# Altium schematic symbol library LIB_Manual.SchLib: 9 symbols
Pins are listed as number, name and electrical type; pins without a type are passive.

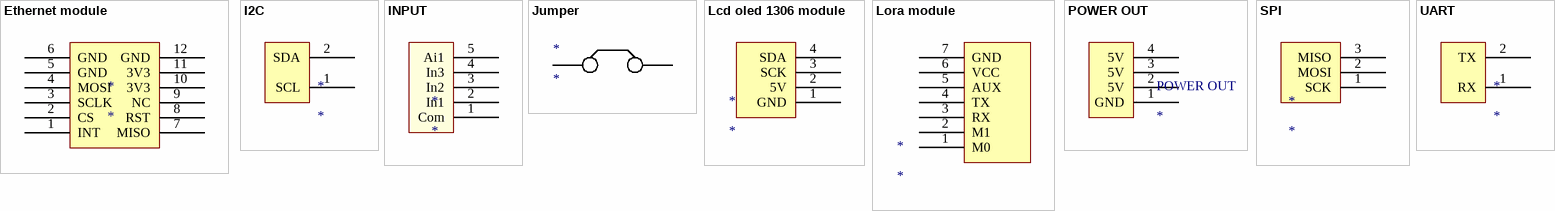
[diagram p0: symbols Ethernet module to UART]

## Ethernet module
designator *
footprint Ethernet module - duplicate
pins: 1 INT, 2 CS, 3 SCLK, 4 MOSI, 5 GND, 6 GND, 7 MISO, 8 RST, 9 NC, 10 3V3, 11 3V3, 12 GND

## I2C
designator *
footprint KF2-5.08
pins: 1 SCL, 2 SDA

## INPUT
designator *
footprint KF5-5 (Serie 1337 - 5.00 mm_5 pins)
pins: 1 Com, 2 In1, 3 In2, 4 In3, 5 Ai1

## Jumper
designator *
footprint JP2-D1T (2 pins, 1 row, straight, gold plating)
pins: 6, 7 ggggggggggg

## Lcd oled 1306 module
designator *
footprint LCD 1306 - duplicate
pins: 1 GND, 2 5V, 3 SCK, 4 SDA

## Lora module
designator *
footprint LORA E32
pins: 1 M0, 2 M1, 3 RX, 4 TX, 5 AUX, 6 VCC (power), 7 GND (power)

## POWER OUT
designator POWER OUT
footprint KF4-5.08
pins: 1 GND, 2 5V, 3 5V, 4 5V

## SPI
designator *
footprint Header3 (CON 3)
pins: 1 SCK, 2 MOSI, 3 MISO

## UART
designator *
footprint KF2-5.08
pins: 1 RX, 2 TX